# EAGLE library part LT1310 (library linear-technology)
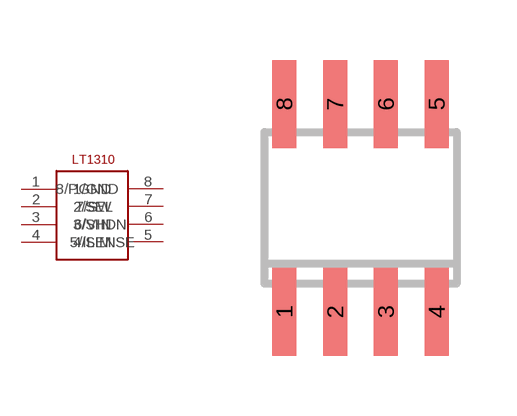
[diagram p4: symbol with the pads of SOIC8; footprint SOIC8]

Designator prefix -

## LT1310  [SOIC8]
1  1/GND
2  2/SEL
3  3/SHDN
4  4/SENSE
5  5/ILIM
6  6/VIN
7  7/SW
8  8/PGND

## Footprint SOIC8 (pad centres in mm)
Small Outline IC
smd 0.6 x 2.2: 1 -1.905,-2.6; 2 -0.635,-2.6; 3 0.635,-2.6; 4 1.905,-2.6; 5 1.905,2.6; 6 0.635,2.6; 7 -0.635,2.6; 8 -1.905,2.6